# EAGLE library part GR10N (library mynixies)
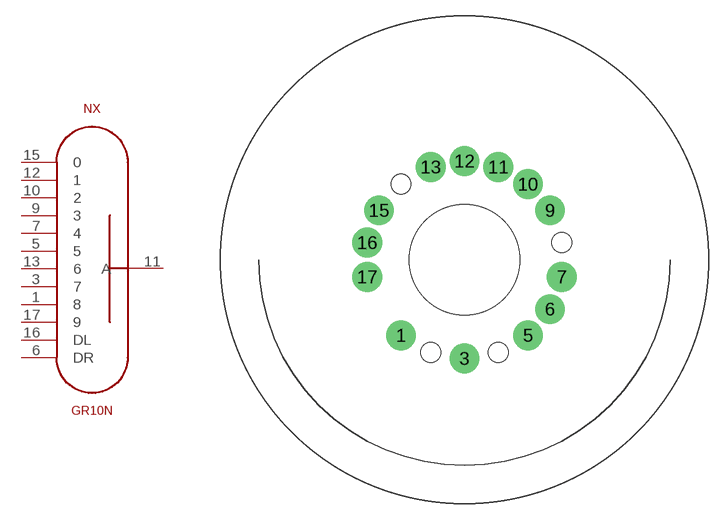
[diagram p14: symbol with the pads of B17A-8331; footprint B17A-8331]

Designator prefix NX

## GR10N  [B17A-8331]
1  8  pas
3  7  pas
5  5  pas
6  DR  pas
7  4  pas
9  3  pas
10  2  pas
11  A  pas
12  1  pas
13  6  pas
15  0  pas
16  DL  pas
17  9  pas

## Footprint B17A-8331 (pad centres in mm)
drill 1.829: 1 -5.861,-6.985; 3 0,-9.119; 5 5.861,-6.985; 6 7.897,-4.559; 7 8.98,-1.583; 9 7.897,4.559; 10 5.861,6.985; 11 3.119,8.569; 12 0,9.119; 13 -3.119,8.569; 15 -7.897,4.559; 16 -8.98,1.583; 17 -8.98,-1.583
hole 1.829 at -3.119,-8.569
hole 1.829 at 3.119,-8.569
hole 1.829 at 8.98,1.583
hole 1.829 at -5.861,6.985
hole 10.16 at 0,0